# Altium schematic symbol library Дросселя.SchLib: 1 symbol
Pins are listed as number, name and electrical type; pins without a type are passive.

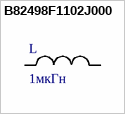
[diagram p0: symbol B82498F1102J000]

## B82498F1102J000
designator L, comment 1мкГн
B82498F1102J000, 1мкГн,0805, 5%, Катушка индуктивности SMD
pins: 1, 2